# EAGLE library part DF3-12 (library con-hirose)
Single row connector 2mm 12 way
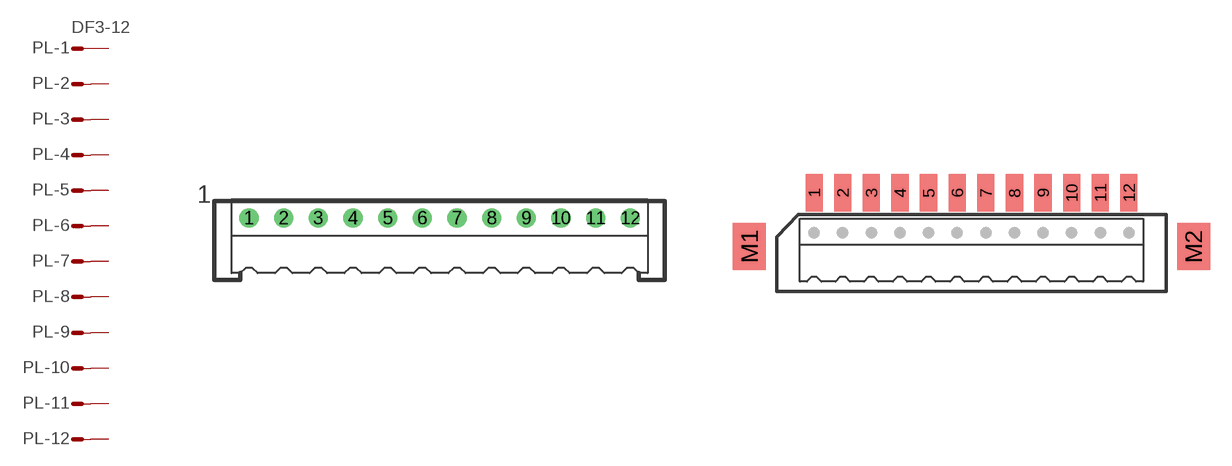
[diagram p13: symbol with the pads of DF3P-12; footprints DF3P-12, DF3DZ-12]

Designator prefix PL; gates -1=MV -2=M -3=M -4=M -5=M -6=M -7=M -8=M -9=M -10=M -11=M -12=M

## DF3-12P  [DF3P-12]
1  -1:S  pas
2  -2:S  pas
3  -3:S  pas
4  -4:S  pas
5  -5:S  pas
6  -6:S  pas
7  -7:S  pas
8  -8:S  pas
9  -9:S  pas
10  -10:S  pas
11  -11:S  pas
12  -12:S  pas

## DF3-12DZ  [DF3DZ-12]
Pads as for DF3P-12

## DF3-12R  [DF3R-12]
Pads as for DF3P-12

## Footprint DF3P-12 (pad centres in mm)
Single row connector 2mm 12 way
drill 0.6 round: 1 -11,1; 2 -9,1; 3 -7,1; 4 -5,1; 5 -3,1; 6 -1,1; 7 1,1; 8 3,1; 9 5,1; 10 7,1; 11 9,1; 12 11,1

## Footprint DF3DZ-12 (pad centres in mm)
Single row SMT connector 2mm 12 way
smd 1.2 x 2.6: 1 -11,4.1; 2 -9,4.1; 3 -7,4.1; 4 -5,4.1; 5 -3,4.1; 6 -1,4.1; 7 1,4.1; 8 3,4.1; 9 5,4.1; 10 7,4.1; 11 9,4.1; 12 11,4.1
smd 2.3 x 3.3: M1 -15.52,0.35; M2 15.52,0.35

## Footprint DF3R-12 (pad centres in mm)
Single row connector 2mm 12 way
drill 0.6 round: 1 -11,1.8; 2 -9,1.8; 3 -7,1.8; 4 -5,1.8; 5 -3,1.8; 6 -1,1.8; 7 1,1.8; 8 3,1.8; 9 5,1.8; 10 7,1.8; 11 9,1.8; 12 11,1.8